# Altium schematic symbol library 2019-09-27_18-48-38.SchLib: 2 symbols
Pins are listed as number, name and electrical type; pins without a type are passive.

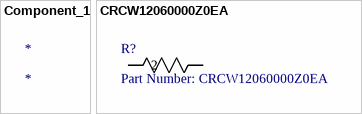
[diagram p0: symbols Component_1 to CRCW12060000Z0EA]

## Component_1
designator *

## CRCW12060000Z0EA
designator R?, comment Part Number: CRCW12060000Z0EA
No Description Available; Vendor: Vishay; Built_By: EMA_UL_Team; Manufacturer_Part_Number: CRCW12060000Z0EA; Copyright: Copyright (C) 2018 Accelerated Designs. All rights reserved; RefDes: RefDes; Type: DEV; Value: Value
footprint RES_CRCW_1206
pins: 1, 2